# EAGLE library part BISM2 (library lib_stankus)
BISM2 Bluetooth module
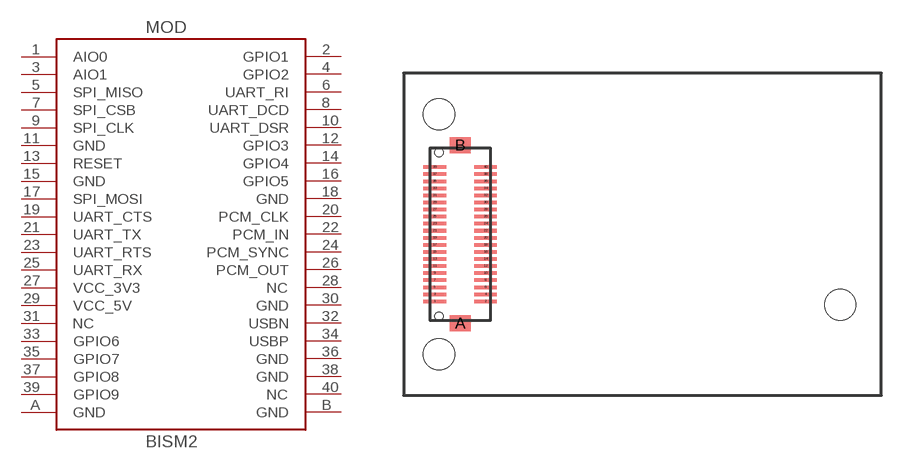
[diagram p74: symbol with the pads of BISM2; footprint BISM2]

Designator prefix MOD

## BISM2  [BISM2]
1  AIO0  pas
2  GPIO1  pas
3  AIO1  pas
4  GPIO2  pas
5  SPI_MISO  pas
6  UART_RI  pas
7  SPI_CSB  pas
8  UART_DCD  pas
9  SPI_CLK  pas
10  UART_DSR  pas
11  GND  pas
12  GPIO3  pas
13  RESET  pas
14  GPIO4  pas
15  GND  pas
16  GPIO5  pas
17  SPI_MOSI  pas
18  GND  pas
19  UART_CTS  pas
20  PCM_CLK  pas
21  UART_TX  pas
22  PCM_IN  pas
23  UART_RTS  pas
24  PCM_SYNC  pas
25  UART_RX  pas
26  PCM_OUT  pas
27  VCC_3V3  pas
28  NC  nc
29  VCC_5V  pas
30  GND  pas
31  NC  nc
32  USBN  pas
33  GPIO6  pas
34  USBP  pas
35  GPIO7  pas
36  GND  pas
37  GPIO8  pas
38  GND  pas
39  GPIO9  pas
40  NC  nc
A  GND  pas
B  GND  pas

## Footprint BISM2 (pad centres in mm)
BISM2
smd 1.6 x 0.25: 1 -1.8,-4.75; 2 1.8,-4.75; 3 -1.8,-4.25; 4 1.8,-4.25; 5 -1.8,-3.75; 6 1.8,-3.75; 7 -1.8,-3.25; 8 1.8,-3.25; 9 -1.8,-2.75; 10 1.8,-2.75; 11 -1.8,-2.25; 12 1.8,-2.25; 13 -1.8,-1.75; 14 1.8,-1.75; 15 -1.8,-1.25; 16 1.8,-1.25; 17 -1.8,-0.75; 18 1.8,-0.75; 19 -1.8,-0.25; 20 1.8,-0.25; 21 -1.8,0.25; 22 1.8,0.25; 23 -1.8,0.75; 24 1.8,0.75; 25 -1.8,1.25; 26 1.8,1.25; 27 -1.8,1.75; 28 1.8,1.75; 29 -1.8,2.25; 30 1.8,2.25; 31 -1.8,2.75; 32 1.8,2.75; 33 -1.8,3.25; 34 1.8,3.25; 35 -1.8,3.75; 36 1.8,3.75; 37 -1.8,4.25; 38 1.8,4.25; 39 -1.8,4.75; 40 1.8,4.75
smd 1.5 x 1.15: A 0,-6.3; B 0,6.3
hole 0.6 at -1.5,5.8
hole 0.6 at -1.5,-5.8
hole 2.2 at -1.5,8.5
hole 2.2 at -1.5,-8.5
hole 2.2 at 26.9,-5